# Altium footprint library REDFIT_4.PcbLib: 1 footprints
Each footprint in its own frame and in the unit in brackets; x right, y up, seen from the top. Pads: shape width x height; smd on the part's side, far side on the other; paste and mask are expansions set on the pad; w line width, h text height; cw(c..) or ccw(c..) is an arc to the next point about the centre after c.
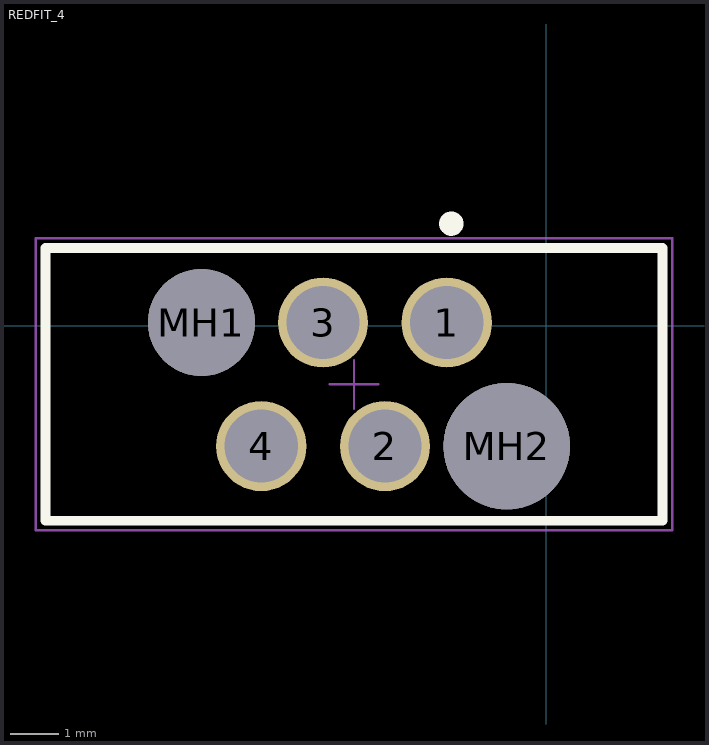
[diagram p0: the footprint, top view; thin cyan lines are the x and y axes]

## REDFIT_4 [mm]
pads (6):
  round 1.85 hole 1.5: 1(-2.045,0.07) 2(-3.315,-2.47) 3(-4.585,0.07) 4(-5.855,-2.47)
  round 2.2 hole 2.2 unplated: MH1(-7.085,0.07)
  round 2.6 hole 2.6 unplated: MH2(-0.815,-2.47)
Top Overlay:
  circle w0.25: c-1.95,2.1 r0.125
  lines w0.2: -10.285,-4 -10.285,1.6 2.385,1.6 2.385,-4 -10.285,-4
Mechanical 13:
  lines w0.1: -10.285,-4 2.385,-4 2.385,1.6 -10.285,1.6 -10.285,-4
Mechanical 15:
  lines w0.05: -4.45,-1.2 -3.45,-1.2 ; -3.95,-1.7 -3.95,-0.7 ; -10.485,-4.2 2.585,-4.2 2.585,1.8 -10.485,1.8 -10.485,-4.2
3D body "490107670412.stp": height 10.5, standoff -4.45, extent -10.285,-4 2.385,1.6